# Altium footprint library IC.PcbLib: 12 footprints
Each footprint in its own frame and in the unit in brackets; x right, y up, seen from the top. Pads: shape width x height; smd on the part's side, far side on the other; paste and mask are expansions set on the pad; w line width, h text height; cw(c..) or ccw(c..) is an arc to the next point about the centre after c.
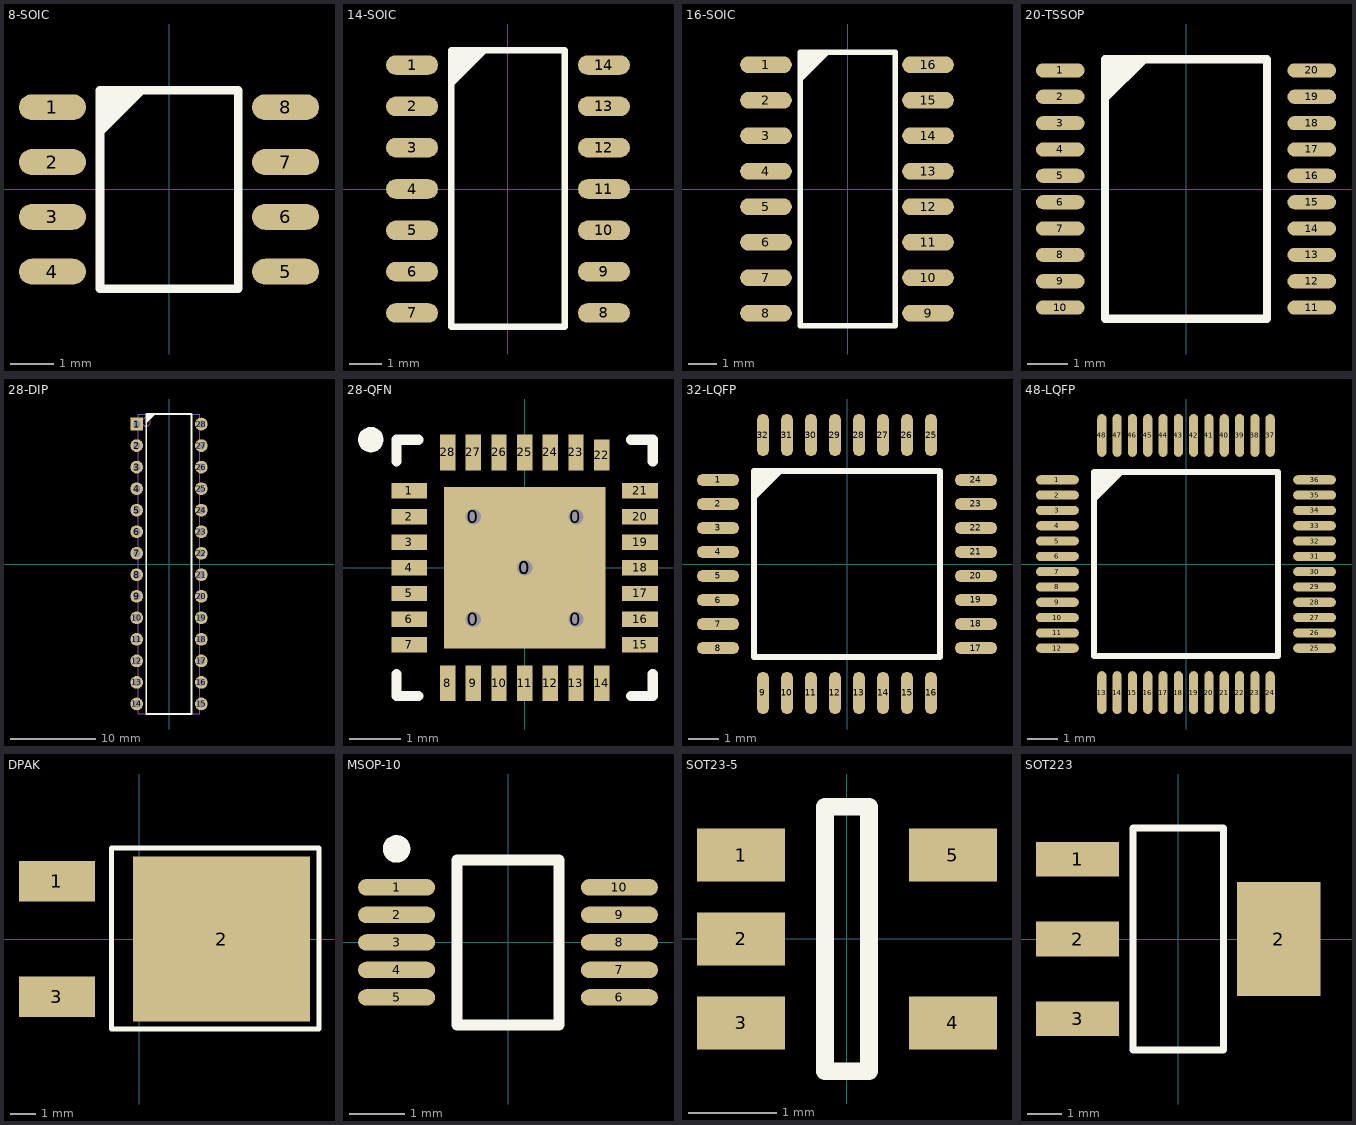
[diagram p0: the footprints below, top view; thin cyan lines are the x and y axes]

## 8-SOIC [mm]
pads (8):
  rrect100% 1.55x0.6 smd: 1(-2.7,1.905) 2(-2.7,0.635) 3(-2.7,-0.635) 4(-2.7,-1.905) 5(2.7,-1.905) 6(2.7,-0.635) 7(2.7,0.635) 8(2.7,1.905)
Top Overlay:
  region: -1.595,2.325
  region: -1.2,2.7
  region: -1.595,2.325
  region: -1.6,2.3 -0.5,2.3 -1.6,1.2
  lines w0.2: -1.6,-2.3 -1.6,2.3 1.605,2.3 1.605,-2.3 -1.6,-2.3
3D body "User Library-SOIC-8-1.STEP": height 1.75, standoff 0, extent -3,-2.45 3,2.45

## 14-SOIC [mm]
pads (14):
  rrect100% 1.6x0.6 smd: 1(-2.95,3.81) 2(-2.95,2.54) 3(-2.95,1.27) 4(-2.95,0) 5(-2.95,-1.27) 6(-2.95,-2.54) 7(-2.95,-3.81) 8(2.95,-3.81) 9(2.95,-2.54) 10(2.95,-1.27) 11(2.95,0) 12(2.95,1.27) 13(2.95,2.54) 14(2.95,3.81)
Top Overlay:
  region: -1.75,4.21 -0.65,4.21 -1.75,3.11
  lines w0.2: -1.75,-4.24 -1.75,4.26 1.75,4.26 1.75,-4.24 -1.75,-4.24
3D body "User Library-so14-2.STEP": height 1.78, standoff 0.01, extent -3.068,-4.34 3.069,4.36

## 16-SOIC [mm]
height 2.65
pads (16):
  oval 1.85x0.6 smd: 1(-2.925,4.448) 2(-2.925,3.178) 3(-2.925,1.908) 4(-2.925,0.638) 5(-2.925,-0.632) 6(-2.925,-1.902) 7(-2.925,-3.172) 8(-2.925,-4.442) 9(2.875,-4.442) 10(2.875,-3.172) 11(2.875,-1.902) 12(2.875,-0.632) 13(2.875,0.638) 14(2.875,1.908) 15(2.875,3.178) 16(2.875,4.448)
Top Overlay:
  region: -1.7,4.9 -0.6,4.9 -1.7,3.8
  region: -1.75,4.9
  lines w0.2: -1.7,-4.9 1.7,-4.9 1.7,4.9 -1.7,4.9 -1.7,-4.9
3D body "User Library-so16-1.STEP": height 1.73, standoff -0.04, extent -3.093,-5.01 3.044,4.96

## 20-TSSOP [mm]
height 1.2
pads (20):
  oval 1.2x0.35 smd: 1(-3.1,2.925) 2(-3.1,2.275) 3(-3.1,1.625) 4(-3.1,0.975) 5(-3.1,0.325) 6(-3.1,-0.325) 7(-3.1,-0.975) 8(-3.1,-1.625) 9(-3.1,-2.275) 10(-3.1,-2.925) 11(3.1,-2.925) 12(3.1,-2.275) 13(3.1,-1.625) 14(3.1,-0.975) 15(3.1,-0.325) 16(3.1,0.325) 17(3.1,0.975) 18(3.1,1.625) 19(3.1,2.275) 20(3.1,2.925)
Top Overlay:
  region: -2,3.2 -0.9,3.2 -2,2.1
  lines w0.2: -2,-3.2 2,-3.2 2,3.2 -2,3.2 -2,-3.2
3D body "TSSOP-20.STEP": height 1.2, standoff 0, extent -3.2,-3.25 3.2,3.25

## 28-DIP [mm] "28-Pin Plastic Dual In-Line Package (PDIP)"
height 4.58
pads (28):
  rect 1.5x1.5 hole 0.9: 1(-3.81,16.51)
  round 1.5 hole 0.9: 2(-3.81,13.97) 3(-3.81,11.43) 4(-3.81,8.89) 5(-3.81,6.35) 6(-3.81,3.81) 7(-3.81,1.27) 8(-3.81,-1.27) 9(-3.81,-3.81) 10(-3.81,-6.35) 11(-3.81,-8.89) 12(-3.81,-11.43) 13(-3.81,-13.97) 14(-3.81,-16.51) 15(3.81,-16.51) 16(3.81,-13.97) 17(3.81,-11.43) 18(3.81,-8.89) 19(3.81,-6.35) 20(3.81,-3.81) 21(3.81,-1.27) 22(3.81,1.27) 23(3.81,3.81) 24(3.81,6.35) 25(3.81,8.89) 26(3.81,11.43) 27(3.81,13.97) 28(3.81,16.51)
Top Overlay:
  region: -2.7,17.7 -1.6,17.7 -2.7,16.6
  region: -2.65,17.7
  lines w0.2: -2.7,-17.7 -2.7,17.7 0.635,17.7 2.65,17.7 2.65,-17.7 -2.7,-17.7
3D:
  circle w0.1: c-2.7,16.75 r0.5
  lines w0.1: -3.6,-17.65 -3.6,17.65 3.6,17.65 3.6,-17.65 -3.6,-17.65
3D body "DIP-28.step": height 5.2, standoff -3, extent -3.935,-17.65 3.935,17.75

## 28-QFN [mm] "PQFN, 28-Leads, Body 5,00x5,00mm, Pitch 0,50mm, Thermal Pad 3,15x3,15mm, IPC Medium Density"
height 0.9
pads (35):
  round 0.7 hole 0.3: 0(-1,-1) 0(-1,1) 0(0,0) 0(1,-1) 0(1,1)
  rect 3.15x3.15 smd: 0(0,0)
  rect 0.7x0.3 smd: 1(-2.25,1.5) 2(-2.25,1) 3(-2.25,0.5) 4(-2.25,0) 5(-2.25,-0.5) 6(-2.25,-1) 7(-2.25,-1.5) 15(2.25,-1.5) 16(2.25,-1) 17(2.25,-0.5) 18(2.25,0) 19(2.25,0.5) 20(2.25,1) 21(2.25,1.5)
  rect 0.3x0.7 smd: 8(-1.5,-2.25) 9(-1,-2.25) 10(-0.5,-2.25) 11(0,-2.25) 12(0.5,-2.25) 13(1,-2.25) 14(1.5,-2.25) 23(1,2.25) 24(0.5,2.25) 25(0,2.25) 26(-0.5,2.25) 27(-1,2.25) 28(-1.5,2.25)
  rect 0.3x0.6 smd: 22(1.5,2.2)
  round 0.5 on Top Overlay: ""(-3,2.5)
Top Overlay:
  lines w0.2: -2.5,-2.075 -2.5,-2.5 -2.075,-2.5 ; -2.5,2.075 -2.5,2.5 -2.075,2.5 ; 2.075,-2.5 2.5,-2.5 2.5,-2.075 ; 2.075,2.5 2.5,2.5 2.5,2.075
3D body "28-QFN, 0.5 mm.step": height 0.9, standoff 0, extent -2.5,-2.5 2.5,2.5

## 32-LQFP [mm]
height 1.6
pads (32):
  rrect100% 1.4x0.4 smd: 1(-4.3,2.8) 2(-4.3,2) 3(-4.3,1.2) 4(-4.3,0.4) 5(-4.3,-0.4) 6(-4.3,-1.2) 7(-4.3,-2) 8(-4.3,-2.8) 17(4.3,-2.8) 18(4.3,-2) 19(4.3,-1.2) 20(4.3,-0.4) 21(4.3,0.4) 22(4.3,1.2) 23(4.3,2) 24(4.3,2.8)
  rrect100% 0.4x1.4 smd: 9(-2.8,-4.3) 10(-2,-4.3) 11(-1.2,-4.3) 12(-0.4,-4.3) 13(0.4,-4.3) 14(1.2,-4.3) 15(2,-4.3) 16(2.8,-4.3) 25(2.8,4.3) 26(2,4.3) 27(1.2,4.3) 28(0.4,4.3) 29(-0.4,4.3) 30(-1.2,4.3) 31(-2,4.3) 32(-2.8,4.3)
Top Overlay:
  region: -3.1,3.1 -2.1,3.1 -3.1,2.1
  lines w0.2: -3.1,-3.1 -3.1,3.1 3.1,3.1 3.1,-3.1 -3.1,-3.1
3D body "User Library-LQFP32-2.STEP": height 1.62, standoff -0.01, extent -4.572,-4.572 4.572,4.572

## 48-LQFP [mm]
height 1.6
pads (48):
  oval 1.4x0.3 smd: 1(-4.2,2.75) 2(-4.2,2.25) 3(-4.2,1.75) 4(-4.2,1.25) 5(-4.2,0.75) 6(-4.2,0.25) 7(-4.2,-0.25) 8(-4.2,-0.75) 9(-4.2,-1.25) 10(-4.2,-1.75) 11(-4.2,-2.25) 12(-4.2,-2.75) 25(4.2,-2.75) 26(4.2,-2.25) 27(4.2,-1.75) 28(4.2,-1.25) 29(4.2,-0.75) 30(4.2,-0.25) 31(4.2,0.25) 32(4.2,0.75) 33(4.2,1.25) 34(4.2,1.75) 35(4.2,2.25) 36(4.2,2.75)
  oval 0.3x1.4 smd: 13(-2.75,-4.2) 14(-2.25,-4.2) 15(-1.75,-4.2) 16(-1.25,-4.2) 17(-0.75,-4.2) 18(-0.25,-4.2) 19(0.25,-4.2) 20(0.75,-4.2) 21(1.25,-4.2) 22(1.75,-4.2) 23(2.25,-4.2) 24(2.75,-4.2) 37(2.75,4.2) 38(2.25,4.2) 39(1.75,4.2) 40(1.25,4.2) 41(0.75,4.2) 42(0.25,4.2) 43(-0.25,4.2) 44(-0.75,4.2) 45(-1.25,4.2) 46(-1.75,4.2) 47(-2.25,4.2) 48(-2.75,4.2)
Top Overlay:
  region: -3,3 -2,3 -3,2
  lines w0.2: -3,-3 3,-3 3,3 -3,3 -3,-3
3D body "User Library-LQFP48-0_5.STEP": height 1.55, standoff -0.02, extent -4.386,-4.386 4.386,4.386

## DPAK [mm]
height 2.4
pads (3):
  rect 3x1.6 smd: 1(-3.25,2.29) 3(-3.25,-2.29)
  rect 7x6.5 smd: 2(3.25,0)
Top Overlay:
  lines w0.2: -1.1,-3.556 7.1,-3.556 7.1,3.6 -1.1,3.6 -1.1,-3.556
3D body "DPAK.step": height 2.39, standoff -0.02, extent -3.538,-3.27 6.4,3.27

## MSOP-10 [mm]
pads (10):
  oval 1.4x0.3 smd: 1(-2.025,1) 2(-2.025,0.5) 3(-2.025,0) 4(-2.025,-0.5) 5(-2.025,-1) 6(2.025,-1) 7(2.025,-0.5) 8(2.025,0) 9(2.025,0.5) 10(2.025,1)
Top Overlay:
  circle w0.25: c-2.025,1.7 r0.125
  lines w0.2: -0.925,-1.5 -0.925,1.5 0.925,1.5 0.925,-1.5 -0.925,-1.5
3D body "MSOP-10.step": height 1.1, standoff 0, extent -2.518,-1.55 2.518,1.55

## SOT23-5 [mm]
height 1.45
pads (5):
  rect 1x0.6 smd: 1(-1.2,0.95) 2(-1.2,0) 3(-1.2,-0.95) 4(1.2,-0.95) 5(1.2,0.95)
Top Overlay:
  lines w0.2: -0.25,-1.5 0.25,-1.5 0.25,1.5 -0.25,1.5 -0.25,-1.5
3D body "SOT23-5-1.step": height 1.3, standoff 0, extent -1.5,-1.5 1.5,1.5

## SOT223 [mm]
height 1.8
pads (4):
  rect 2.4x1 smd: 1(-2.9,2.3) 2(-2.9,0) 3(-2.9,-2.3)
  rect 2.4x3.3 smd: 2(2.9,0)
Top Overlay:
  lines w0.2: -1.3,-3.2 1.3,-3.2 1.3,3.2 -1.3,3.2 -1.3,-3.2
3D body "SOT-223.step": height 1.64, standoff -0.01, extent -3.5,-3.25 3.5,3.25